# Altium integrated library Voltage Reference.IntLib: 18 symbols
Pins are listed as number, name and electrical type; pins without a type are passive.

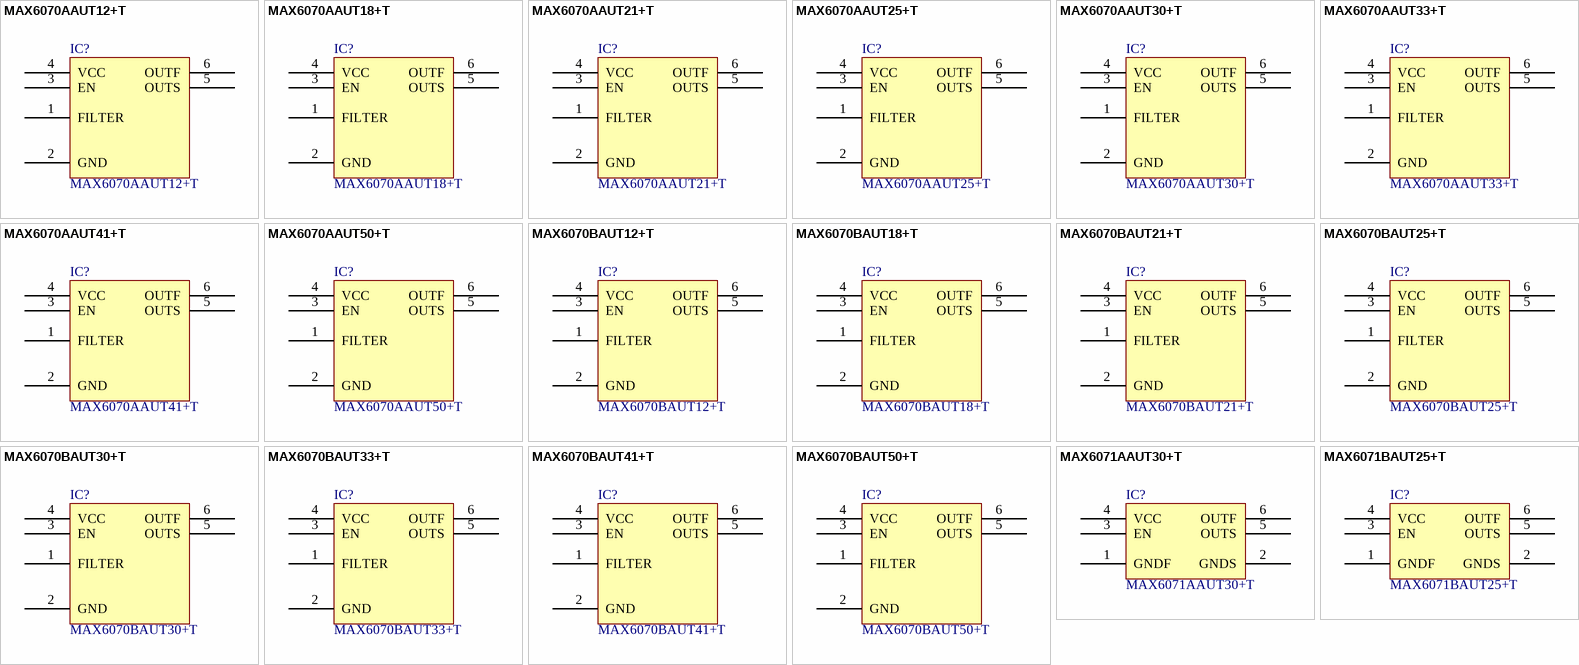
[diagram p0: symbols MAX6070AAUT12+T to MAX6071BAUT25+T]

## MAX6070AAUT12+T
designator IC?
IC VREF SERIES 1.25V SOT23; Manufacturer: Maxim Integrated; Current - Output: 10mA; Tolerance: 0.04%; Temperature Coefficient: 6ppm/C; Voltage - Input: 2.7 V ~ 5.5 V; Current - Supply: 260uA; Part Number: MAX6070AAUT12+T; PartId: 7872; Supplier 1: Digi-Key; Supplier Part Number 1: MAX6070AAUT12+TTR-ND; ComponentLink1Description: Datasheet; ComponentLink1URL: http://datasheets.maximintegrated.com/en/ds/MAX6070-MAX6071.pdf; ComponentLink2Description: Digi-Key Listing; ComponentLink2URL: http://www.digikey.ca/product-detail/en/MAX6070AAUT12%2BT/MAX6070AAUT12%2BTTR-ND/3829320; Price: 2.1913; Type: Fixed; Device Package: SOT-23-6; Voltage - Output (Min/Fixed): 1.25V; Operating Temperature: -40C ~ 125C (TA)
footprint MAXIM SOT-23-6
pins: 1 FILTER, 2 GND, 3 EN, 4 VCC, 5 OUTS, 6 OUTF

## MAX6070AAUT18+T
designator IC?
IC VREF SERIES 1.8V SOT23-6; Manufacturer: Maxim Integrated; Current - Output: 10mA; Tolerance: 0.04%; Temperature Coefficient: 6ppm/C; Voltage - Input: 2.7 V ~ 5.5 V; Current - Supply: 260uA; Part Number: MAX6070AAUT18+T; PartId: 7874; Supplier 1: Digi-Key; Supplier Part Number 1: MAX6070AAUT18+TTR-ND; ComponentLink1Description: Datasheet; ComponentLink1URL: http://datasheets.maximintegrated.com/en/ds/MAX6070-MAX6071.pdf; ComponentLink2Description: Digi-Key Listing; ComponentLink2URL: http://www.digikey.ca/product-detail/en/MAX6070AAUT18%2BT/MAX6070AAUT18%2BTTR-ND/4156351; Price: 2.1913; Type: Fixed; Device Package: SOT-23-6; Voltage - Output (Min/Fixed): 1.8V; Operating Temperature: -40C ~ 125C (TA)
footprint MAXIM SOT-23-6
pins: 1 FILTER, 2 GND, 3 EN, 4 VCC, 5 OUTS, 6 OUTF

## MAX6070AAUT21+T
designator IC?
IC VREF SERIES 2.048V SOT23-6; Manufacturer: Maxim Integrated; Current - Output: 10mA; Tolerance: 0.04%; Temperature Coefficient: 6ppm/C; Voltage - Input: 2.7 V ~ 5.5 V; Current - Supply: 260uA; Part Number: MAX6070AAUT21+T; PartId: 7877; Supplier 1: Digi-Key; Supplier Part Number 1: MAX6070AAUT21+TTR-ND; ComponentLink1Description: Datasheet; ComponentLink1URL: http://datasheets.maximintegrated.com/en/ds/MAX6070-MAX6071.pdf; ComponentLink2Description: Digi-Key Listing; ComponentLink2URL: http://www.digikey.ca/product-detail/en/MAX6070AAUT21%2BT/MAX6070AAUT21%2BTTR-ND/3976872; Price: 2.1913; Type: Fixed; Device Package: SOT-23-6; Voltage - Output (Min/Fixed): 2.048V; Operating Temperature: -40C ~ 125C (TA)
footprint MAXIM SOT-23-6
pins: 1 FILTER, 2 GND, 3 EN, 4 VCC, 5 OUTS, 6 OUTF

## MAX6070AAUT25+T
designator IC?
IC VREF SERIES 2.5V SOT23; Manufacturer: Maxim Integrated; Current - Output: 10mA; Tolerance: 0.04%; Temperature Coefficient: 6ppm/C; Voltage - Input: 2.8 V ~ 5.5 V; Current - Supply: 300uA; Part Number: MAX6070AAUT25+T; PartId: 7879; Supplier 1: Digi-Key; Supplier Part Number 1: MAX6070AAUT25+TTR-ND; ComponentLink1Description: Datasheet; ComponentLink1URL: http://datasheets.maximintegrated.com/en/ds/MAX6070-MAX6071.pdf; ComponentLink2Description: Digi-Key Listing; ComponentLink2URL: http://www.digikey.ca/product-detail/en/MAX6070AAUT25%2BT/MAX6070AAUT25%2BTTR-ND/3829321; Price: 2.1913; Type: Fixed; Device Package: SOT-23-6; Voltage - Output (Min/Fixed): 2.5V; Operating Temperature: -40C ~ 125C (TA)
footprint MAXIM SOT-23-6
pins: 1 FILTER, 2 GND, 3 EN, 4 VCC, 5 OUTS, 6 OUTF

## MAX6070AAUT30+T
designator IC?
IC VREF SERIES 3V SOT23-6; Manufacturer: Maxim Integrated; Current - Output: 10mA; Tolerance: 0.04%; Temperature Coefficient: 6ppm/C; Voltage - Input: 3.2 V ~ 5.5 V; Current - Supply: 300uA; Part Number: MAX6070AAUT30+T; PartId: 7880; Supplier 1: Digi-Key; Supplier Part Number 1: MAX6070AAUT30+TTR-ND; ComponentLink1Description: Datasheet; ComponentLink1URL: http://datasheets.maximintegrated.com/en/ds/MAX6070-MAX6071.pdf; ComponentLink2Description: Digi-Key Listing; ComponentLink2URL: http://www.digikey.ca/product-detail/en/MAX6070AAUT30%2BT/MAX6070AAUT30%2BTTR-ND/3976873; Price: 2.1913; Type: Fixed; Device Package: SOT-23-6; Voltage - Output (Min/Fixed): 3V; Operating Temperature: -40C ~ 125C (TA)
footprint MAXIM SOT-23-6
pins: 1 FILTER, 2 GND, 3 EN, 4 VCC, 5 OUTS, 6 OUTF

## MAX6070AAUT33+T
designator IC?
IC VREF SERIES 3.3V SOT23-6; Manufacturer: Maxim Integrated; Current - Output: 10mA; Tolerance: 0.04%; Temperature Coefficient: 6ppm/C; Voltage - Input: 3.5 V ~ 5.5 V; Current - Supply: 330uA; Part Number: MAX6070AAUT33+T; PartId: 7883; Supplier 1: Digi-Key; Supplier Part Number 1: MAX6070AAUT33+TTR-ND; ComponentLink1Description: Datasheet; ComponentLink1URL: http://datasheets.maximintegrated.com/en/ds/MAX6070-MAX6071.pdf; ComponentLink2Description: Digi-Key Listing; ComponentLink2URL: http://www.digikey.ca/product-detail/en/MAX6070AAUT33%2BT/MAX6070AAUT33%2BTTR-ND/4156352; Price: 2.1913; Type: Fixed; Device Package: SOT-23-6; Voltage - Output (Min/Fixed): 3.3V; Operating Temperature: -40C ~ 125C (TA)
footprint MAXIM SOT-23-6
pins: 1 FILTER, 2 GND, 3 EN, 4 VCC, 5 OUTS, 6 OUTF

## MAX6070AAUT41+T
designator IC?
IC VREF SERIES 4.096V SOT23; Manufacturer: Maxim Integrated; Current - Output: 10mA; Tolerance: 0.04%; Temperature Coefficient: 6ppm/C; Voltage - Input: 4.3 V ~ 5.5 V; Current - Supply: 350uA; Part Number: MAX6070AAUT41+T; PartId: 7885; Supplier 1: Digi-Key; Supplier Part Number 1: MAX6070AAUT41+TTR-ND; ComponentLink1Description: Datasheet; ComponentLink1URL: http://datasheets.maximintegrated.com/en/ds/MAX6070-MAX6071.pdf; ComponentLink2Description: Digi-Key Listing; ComponentLink2URL: http://www.digikey.ca/product-detail/en/MAX6070AAUT41%2BT/MAX6070AAUT41%2BTTR-ND/3829322; Price: 2.2267; Type: Fixed; Device Package: SOT-23-6; Voltage - Output (Min/Fixed): 4.096V; Operating Temperature: -40C ~ 125C (TA)
footprint MAXIM SOT-23-6
pins: 1 FILTER, 2 GND, 3 EN, 4 VCC, 5 OUTS, 6 OUTF

## MAX6070AAUT50+T
designator IC?
IC VREF SERIES 5V SOT23-6; Manufacturer: Maxim Integrated; Current - Output: 10mA; Tolerance: 0.04%; Temperature Coefficient: 6ppm/C; Voltage - Input: 5.2 V ~ 5.5 V; Current - Supply: 330uA; Part Number: MAX6070AAUT50+T; PartId: 7887; Supplier 1: Digi-Key; Supplier Part Number 1: MAX6070AAUT50+TTR-ND; ComponentLink1Description: Datasheet; ComponentLink1URL: http://datasheets.maximintegrated.com/en/ds/MAX6070-MAX6071.pdf; ComponentLink2Description: Digi-Key Listing; ComponentLink2URL: http://www.digikey.ca/product-detail/en/MAX6070AAUT50%2BT/MAX6070AAUT50%2BTTR-ND/3976874; Price: 2.1913; Type: Fixed; Device Package: SOT-23-6; Voltage - Output (Min/Fixed): 5V; Operating Temperature: -40C ~ 125C (TA)
footprint MAXIM SOT-23-6
pins: 1 FILTER, 2 GND, 3 EN, 4 VCC, 5 OUTS, 6 OUTF

## MAX6070BAUT12+T
designator IC?
IC VREF SERIES 1.25V SOT23; Manufacturer: Maxim Integrated; Current - Output: 10mA; Tolerance: 0.08%; Temperature Coefficient: 8ppm/C; Voltage - Input: 2.7 V ~ 5.5 V; Current - Supply: 260uA; Part Number: MAX6070BAUT12+T; PartId: 7873; Supplier 1: Digi-Key; Supplier Part Number 1: MAX6070BAUT12+TTR-ND; ComponentLink1Description: Datasheet; ComponentLink1URL: http://datasheets.maximintegrated.com/en/ds/MAX6070-MAX6071.pdf; ComponentLink2Description: Digi-Key Listing; ComponentLink2URL: http://www.digikey.ca/product-detail/en/MAX6070BAUT12%2BT/MAX6070BAUT12%2BTTR-ND/3829323; Price: 1.4137; Type: Fixed; Device Package: SOT-23-6; Voltage - Output (Min/Fixed): 1.25V; Operating Temperature: -40C ~ 125C (TA)
footprint MAXIM SOT-23-6
pins: 1 FILTER, 2 GND, 3 EN, 4 VCC, 5 OUTS, 6 OUTF

## MAX6070BAUT18+T
designator IC?
IC VREF SERIES 1.8V SOT23-6; Manufacturer: Maxim Integrated; Current - Output: 10mA; Tolerance: 0.08%; Temperature Coefficient: 8ppm/C; Voltage - Input: 2.7 V ~ 5.5 V; Current - Supply: 260uA; Part Number: MAX6070BAUT18+T; PartId: 7875; Supplier 1: Digi-Key; Supplier Part Number 1: MAX6070BAUT18+TTR-ND; ComponentLink1Description: Datasheet; ComponentLink1URL: http://datasheets.maximintegrated.com/en/ds/MAX6070-MAX6071.pdf; ComponentLink2Description: Digi-Key Listing; ComponentLink2URL: http://www.digikey.ca/product-detail/en/MAX6070BAUT18%2BT/MAX6070BAUT18%2BTTR-ND/4156353; Price: 1.4137; Type: Fixed; Device Package: SOT-23-6; Voltage - Output (Min/Fixed): 1.8V; Operating Temperature: -40C ~ 125C (TA)
footprint MAXIM SOT-23-6
pins: 1 FILTER, 2 GND, 3 EN, 4 VCC, 5 OUTS, 6 OUTF

## MAX6070BAUT21+T
designator IC?
IC VREF SERIES 2.048V SOT23-6; Manufacturer: Maxim Integrated; Current - Output: 10mA; Tolerance: 0.08%; Temperature Coefficient: 8ppm/C; Voltage - Input: 2.7 V ~ 5.5 V; Current - Supply: 260uA; Part Number: MAX6070BAUT21+T; PartId: 7876; Supplier 1: Digi-Key; Supplier Part Number 1: MAX6070BAUT21+TTR-ND; ComponentLink1Description: Datasheet; ComponentLink1URL: http://datasheets.maximintegrated.com/en/ds/MAX6070-MAX6071.pdf; ComponentLink2Description: Digi-Key Listing; ComponentLink2URL: http://www.digikey.ca/product-detail/en/MAX6070BAUT21%2BT/MAX6070BAUT21%2BTTR-ND/3976875; Price: 1.4137; Type: Fixed; Device Package: SOT-23-6; Voltage - Output (Min/Fixed): 2.048V; Operating Temperature: -40C ~ 125C (TA)
footprint MAXIM SOT-23-6
pins: 1 FILTER, 2 GND, 3 EN, 4 VCC, 5 OUTS, 6 OUTF

## MAX6070BAUT25+T
designator IC?
IC VREF SERIES 2.5V SOT23; Manufacturer: Maxim Integrated; Current - Output: 10mA; Tolerance: 0.08%; Temperature Coefficient: 8ppm/C; Voltage - Input: 2.8 V ~ 5.5 V; Current - Supply: 300uA; Part Number: MAX6070BAUT25+T; PartId: 7878; Supplier 1: Digi-Key; Supplier Part Number 1: MAX6070BAUT25+TTR-ND; ComponentLink1Description: Datasheet; ComponentLink1URL: http://datasheets.maximintegrated.com/en/ds/MAX6070-MAX6071.pdf; ComponentLink2Description: Digi-Key Listing; ComponentLink2URL: http://www.digikey.ca/product-detail/en/MAX6070BAUT25%2BT/MAX6070BAUT25%2BTTR-ND/3829324; Price: 1.4137; Type: Fixed; Device Package: SOT-23-6; Voltage - Output (Min/Fixed): 2.5V; Operating Temperature: -40C ~ 125C (TA)
footprint MAXIM SOT-23-6
pins: 1 FILTER, 2 GND, 3 EN, 4 VCC, 5 OUTS, 6 OUTF

## MAX6070BAUT30+T
designator IC?
IC VREF SERIES 3V SOT23-6; Manufacturer: Maxim Integrated; Current - Output: 10mA; Tolerance: 0.08%; Temperature Coefficient: 8ppm/C; Voltage - Input: 3.2 V ~ 5.5 V; Current - Supply: 300uA; Part Number: MAX6070BAUT30+T; PartId: 7881; Supplier 1: Digi-Key; Supplier Part Number 1: MAX6070BAUT30+TTR-ND; ComponentLink1Description: Datasheet; ComponentLink1URL: http://datasheets.maximintegrated.com/en/ds/MAX6070-MAX6071.pdf; ComponentLink2Description: Digi-Key Listing; ComponentLink2URL: http://www.digikey.ca/product-detail/en/MAX6070BAUT30%2BT/MAX6070BAUT30%2BTTR-ND/3976876; Price: 1.4491; Type: Fixed; Device Package: SOT-23-6; Voltage - Output (Min/Fixed): 3V; Operating Temperature: -40C ~ 125C (TA)
footprint MAXIM SOT-23-6
pins: 1 FILTER, 2 GND, 3 EN, 4 VCC, 5 OUTS, 6 OUTF

## MAX6070BAUT33+T
designator IC?
IC VREF SERIES 3.3V SOT23-6; Manufacturer: Maxim Integrated; Current - Output: 10mA; Tolerance: 0.08%; Temperature Coefficient: 8ppm/C; Voltage - Input: 3.5 V ~ 5.5 V; Current - Supply: 330uA; Part Number: MAX6070BAUT33+T; PartId: 7882; Supplier 1: Digi-Key; Supplier Part Number 1: MAX6070BAUT33+TTR-ND; ComponentLink1Description: Datasheet; ComponentLink1URL: http://datasheets.maximintegrated.com/en/ds/MAX6070-MAX6071.pdf; ComponentLink2Description: Digi-Key Listing; ComponentLink2URL: http://www.digikey.ca/product-detail/en/MAX6070BAUT33%2BT/MAX6070BAUT33%2BTTR-ND/4156354; Price: 1.4137; Type: Fixed; Device Package: SOT-23-6; Voltage - Output (Min/Fixed): 3.3V; Operating Temperature: -40C ~ 125C (TA)
footprint MAXIM SOT-23-6
pins: 1 FILTER, 2 GND, 3 EN, 4 VCC, 5 OUTS, 6 OUTF

## MAX6070BAUT41+T
designator IC?
IC VREF SERIES 4.096V SOT23; Manufacturer: Maxim Integrated; Current - Output: 10mA; Tolerance: 0.08%; Temperature Coefficient: 8ppm/C; Voltage - Input: 4.3 V ~ 5.5 V; Current - Supply: 350uA; Part Number: MAX6070BAUT41+T; PartId: 7884; Supplier 1: Digi-Key; Supplier Part Number 1: MAX6070BAUT41+TTR-ND; ComponentLink1Description: Datasheet; ComponentLink1URL: http://datasheets.maximintegrated.com/en/ds/MAX6070-MAX6071.pdf; ComponentLink2Description: Digi-Key Listing; ComponentLink2URL: http://www.digikey.ca/product-detail/en/MAX6070BAUT41%2BT/MAX6070BAUT41%2BTTR-ND/3829325; Price: 1.4137; Type: Fixed; Device Package: SOT-23-6; Voltage - Output (Min/Fixed): 4.096V; Operating Temperature: -40C ~ 125C (TA)
footprint MAXIM SOT-23-6
pins: 1 FILTER, 2 GND, 3 EN, 4 VCC, 5 OUTS, 6 OUTF

## MAX6070BAUT50+T
designator IC?
IC VREF SERIES 5V SOT23-6; Manufacturer: Maxim Integrated; Current - Output: 10mA; Tolerance: 0.08%; Temperature Coefficient: 8ppm/C; Voltage - Input: 5.2 V ~ 5.5 V; Current - Supply: 330uA; Part Number: MAX6070BAUT50+T; PartId: 7886; Supplier 1: Digi-Key; Supplier Part Number 1: MAX6070BAUT50+TTR-ND; ComponentLink1Description: Datasheet; ComponentLink1URL: http://datasheets.maximintegrated.com/en/ds/MAX6070-MAX6071.pdf; ComponentLink2Description: Digi-Key Listing; ComponentLink2URL: http://www.digikey.ca/product-detail/en/MAX6070BAUT50%2BT/MAX6070BAUT50%2BTTR-ND/3976877; Price: 1.4137; Type: Fixed; Device Package: SOT-23-6; Voltage - Output (Min/Fixed): 5V; Operating Temperature: -40C ~ 125C (TA)
footprint MAXIM SOT-23-6
pins: 1 FILTER, 2 GND, 3 EN, 4 VCC, 5 OUTS, 6 OUTF

## MAX6071AAUT30+T
designator IC?
IC VREF SERIES 3V SOT23-6; Manufacturer: Maxim Integrated; Current - Output: 10mA; Tolerance: 0.04%; Temperature Coefficient: 6ppm/C; Voltage - Input: 3.2 V ~ 5.5 V; Current - Supply: 300uA; Part Number: MAX6071AAUT30+T; PartId: 7870; Supplier 1: Digi-Key; Supplier Part Number 1: MAX6071AAUT30+TTR-ND; ComponentLink1Description: Datasheet; ComponentLink1URL: http://datasheets.maximintegrated.com/en/ds/MAX6070-MAX6071.pdf; ComponentLink2Description: Digi-Key Listing; ComponentLink2URL: http://www.digikey.ca/product-detail/en/MAX6071AAUT30%2BT/MAX6071AAUT30%2BTTR-ND/3976879; Price: 2.1913; Type: Fixed; Device Package: SOT-23-6; Voltage - Output (Min/Fixed): 3V; Operating Temperature: -40C ~ 125C (TA)
footprint MAXIM SOT-23-6
pins: 1 GNDF, 2 GNDS, 3 EN, 4 VCC, 5 OUTS, 6 OUTF

## MAX6071BAUT25+T
designator IC?
IC VREF SERIES 2.5V SOT23; Manufacturer: Maxim Integrated; Current - Output: 10mA; Tolerance: 0.08%; Temperature Coefficient: 8ppm/C; Voltage - Input: 2.8 V ~ 5.5 V; Current - Supply: 300uA; Part Number: MAX6071BAUT25+T; PartId: 7871; Supplier 1: Digi-Key; Supplier Part Number 1: MAX6071BAUT25+TTR-ND; ComponentLink1Description: Datasheet; ComponentLink1URL: http://datasheets.maximintegrated.com/en/ds/MAX6070-MAX6071.pdf; ComponentLink2Description: Digi-Key Listing; ComponentLink2URL: http://www.digikey.ca/product-detail/en/MAX6071BAUT25%2BT/MAX6071BAUT25%2BTTR-ND/3829330; Price: 1.4137; Type: Fixed; Device Package: SOT-23-6; Voltage - Output (Min/Fixed): 2.5V; Operating Temperature: -40C ~ 125C (TA)
footprint MAXIM SOT-23-6
pins: 1 GNDF, 2 GNDS, 3 EN, 4 VCC, 5 OUTS, 6 OUTF